# Altium schematic symbol library KRL3216T4A-M-R002-G-T5.SchLib: 1 symbol
Pins are listed as number, name and electrical type; pins without a type are passive.

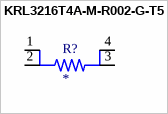
[diagram p0: symbol KRL3216T4A-M-R002-G-T5]

## KRL3216T4A-M-R002-G-T5
designator R?
MF: {'manufacturer': u'Susumu'}; MP: KRL3216T4A-M-R002-G-T5; Package: None; Price: None; Value: *; Availability: Unavailable
footprint RES_KRL3216T4A-M-R002-G-T5
pins: 1 V_1, 2 I_1, 3 I_2, 4 V_2